# EAGLE library part BME680 (library we-sensor)
Bosch BME680 Temperature, Pressure, Humidity, Air Quality Sensor
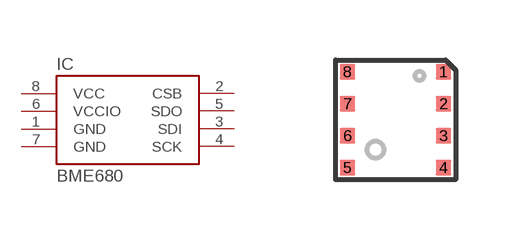
[diagram p8: symbol with the pads of BME680; footprint BME680]

Designator prefix IC

## BME680  [BME680]
1  GND  pwr
2  CSB  in
3  SDI
4  SCK
5  SDO
6  VCCIO  pwr
7  GND  pwr
8  VCC  pwr

## Footprint BME680 (pad centres in mm)
smd 0.4 x 0.4: 1 1.2,1.2; 2 1.2,0.4; 3 1.2,-0.4; 4 1.2,-1.2; 5 -1.2,-1.2; 6 -1.2,-0.4; 7 -1.2,0.4; 8 -1.2,1.2